# Altium footprint library 插座排针.PcbLib: 5 footprints
Each footprint in its own frame and in the unit in brackets; x right, y up, seen from the top. Pads: shape width x height; smd on the part's side, far side on the other; paste and mask are expansions set on the pad; w line width, h text height; cw(c..) or ccw(c..) is an arc to the next point about the centre after c.
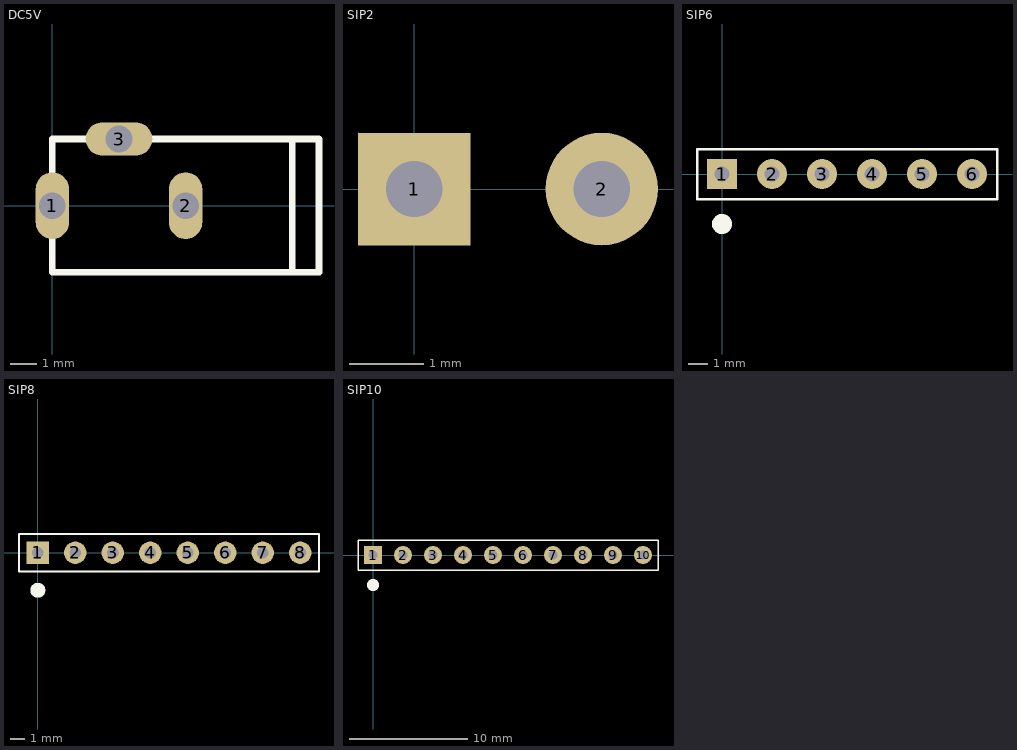
[diagram p0: the footprints below, top view; thin cyan lines are the x and y axes]

## DC5V [mil] "DC 5.0V"
pads (3):
  oval 50x100 hole 40: 1(0,0) 2(200,0)
  oval 100x50 hole 40: 3(100,100)
Top Overlay:
  lines w10: 360,-100 360,100 ; 0,-100 0,100 400,100 400,-100 0,-100

## SIP2 [mil] "SIP2"
pads (2):
  rect 60x60 hole 30: 1(0,0)
  round 60 hole 30: 2(100,0)

## SIP6 [mil] "SIP6"
pads (6):
  rect 60x60 hole 30: 1(0,0)
  round 60 hole 30: 2(100,0) 3(200,0) 4(300,0) 5(400,0) 6(500,0)
Top Overlay:
  circle w20: c0,-100 r10
  lines w5: -50,-50 -50,50 550,50 550,-50 -50,-50

## SIP8 [mil] "SIP8"
pads (8):
  rect 60x60 hole 30: 1(0,0)
  round 60 hole 30: 2(100,0) 3(200,0) 4(300,0) 5(400,0) 6(500,0) 7(600,0) 8(700,0)
Top Overlay:
  circle w20: c0,-100 r10
  lines w5: -50,-50 -50,50 750,50 750,-50 -50,-50

## SIP10 [mil] "SIP10"
pads (10):
  rect 60x60 hole 30: 1(0,0)
  round 60 hole 30: 2(100,0) 3(200,0) 4(300,0) 5(400,0) 6(500,0) 7(600,0) 8(700,0) 9(800,0) 10(900,0)
Top Overlay:
  circle w20: c0,-100 r10
  lines w5: -50,-50 -50,50 950,50 950,-50 -50,-50